# Altium footprint library FUSE.PcbLib: 2 footprints
Each footprint in its own frame and in the unit in brackets; x right, y up, seen from the top. Pads: shape width x height; smd on the part's side, far side on the other; paste and mask are expansions set on the pad; w line width, h text height; cw(c..) or ccw(c..) is an arc to the next point about the centre after c.
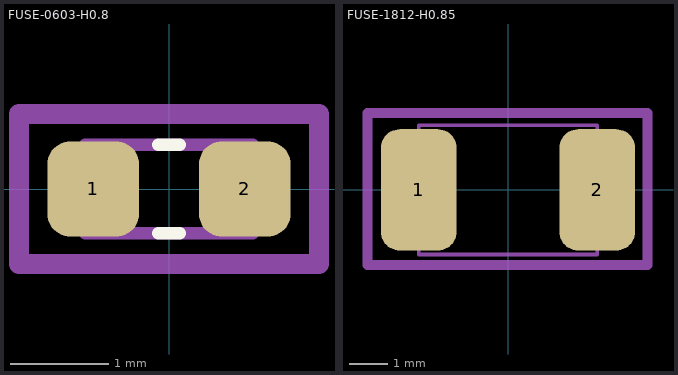
[diagram p0: the footprints below, top view; thin cyan lines are the x and y axes]

## FUSE-0603-H0.8 [mm]
pads (2):
  rrect50% 0.93x0.97 smd: 1(-0.77,0) 2(0.77,0)
Top Overlay:
  lines w0.127: -0.11,-0.45 0.11,-0.45 ; -0.11,0.45 0.11,0.45
Top Assembly:
  lines w0.127: -0.85,-0.45 0.85,-0.45 0.85,0.45 -0.85,0.45 -0.85,-0.45
  text "'.Designator'" at -1.524,0.762 h0.7
Top Component Outline:
  lines w0.2: -1.524,-0.762 1.524,-0.762 1.524,0.762 -1.524,0.762 -1.524,-0.762
3D body "SF-0603HIA100M-2.stp": height 0.9, standoff 0, extent -0.8,-0.45 0.8,0.45

## FUSE-1812-H0.85 [mm]
pads (2):
  rrect50% 2x3.2 smd: 1(-2.35,0) 2(2.35,0)
Top Assembly:
  lines w0.1: -2.35,-1.7 -2.35,1.7 2.35,1.7 2.35,-1.7 -2.35,-1.7
Top Component Outline:
  lines w0.254: -3.7,-1.976 3.675,-1.976 3.675,2.024 -3.7,2.024 -3.7,-1.976
3D body: height 0.85, standoff 0, extent -2.35,-1.704 -1.358,1.7
3D body: height 0.85, standoff 0, extent 1.358,-1.704 2.35,1.7
3D body: height 0.85, standoff 0, extent -1.358,-1.704 1.359,1.7